# Altium footprint library 51Board.PcbLib: 3 footprints
Each footprint in its own frame and in the unit in brackets; x right, y up, seen from the top. Pads: shape width x height; smd on the part's side, far side on the other; paste and mask are expansions set on the pad; w line width, h text height; cw(c..) or ccw(c..) is an arc to the next point about the centre after c.
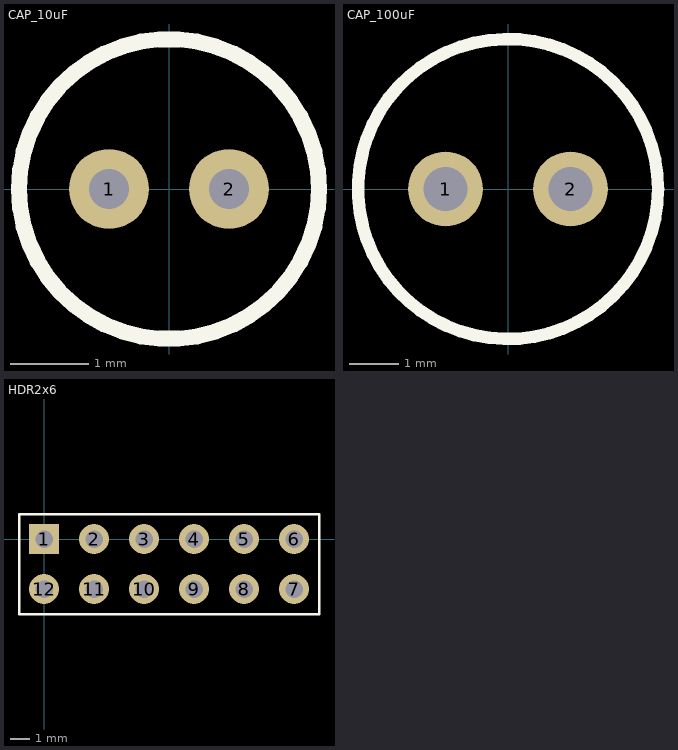
[diagram p0: the footprints below, top view; thin cyan lines are the x and y axes]

## CAP_10uF [mil]
pads (2):
  round 40 hole 20: 1(-30,0) 2(30,0)
Top Overlay:
  circle w8: c0,0 r75

## CAP_100uF [mil]
pads (2):
  round 60 hole 35: 1(-50,0) 2(50,0)
Top Overlay:
  circle w10: c0,0 r120

## HDR2x6 [mil]
pads (12):
  rect 60x60 hole 35: 1(0,0)
  round 60 hole 35: 2(100,0) 3(200,0) 4(300,0) 5(400,0) 6(500,0) 7(500,-100) 8(400,-100) 9(300,-100) 10(200,-100) 11(100,-100) 12(0,-100)
Top Overlay:
  lines w5: -50,-150 550,-150 550,50 -50,50 -50,-150